# EAGLE library part SDL_PS_TO_CONTROL (library sdl)
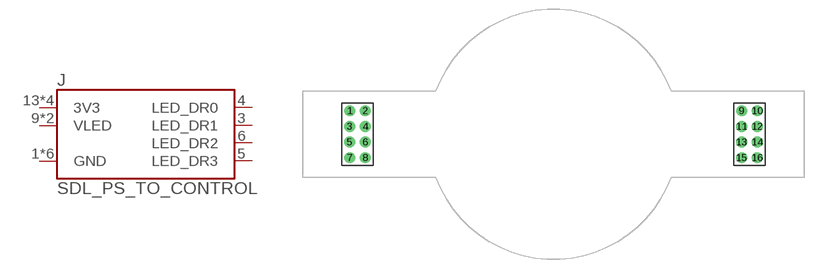
[diagram p0: symbol with the pads of SDL_PS_TO_CONTROL; footprint SDL_PS_TO_CONTROL]

Designator prefix J

## SDL_PS_TO_CONTROL  [SDL_PS_TO_CONTROL]
1  GND
2  GND
3  LED_DR1
4  LED_DR0
5  LED_DR3
6  LED_DR2
7  GND
8  GND
9  VLED
10  VLED
11  GND
12  GND
13  3V3
14  3V3
15  3V3
16  3V3

## Footprint SDL_PS_TO_CONTROL (pad centres in mm)
drill 1.016 pad 1.778: 1 -33.02,3.81; 2 -30.48,3.81; 3 -33.02,1.27; 4 -30.48,1.27; 5 -33.02,-1.27; 6 -30.48,-1.27; 7 -33.02,-3.81; 8 -30.48,-3.81; 9 30.48,3.81; 10 33.02,3.81; 11 30.48,1.27; 12 33.02,1.27; 13 30.48,-1.27; 14 33.02,-1.27; 15 30.48,-3.81; 16 33.02,-3.81